# EAGLE library part SI3201 (library SilabsProSLIC)
Si3201 Linefeed Interface IC Silicon Labs 3201 Linefeed Interface IC
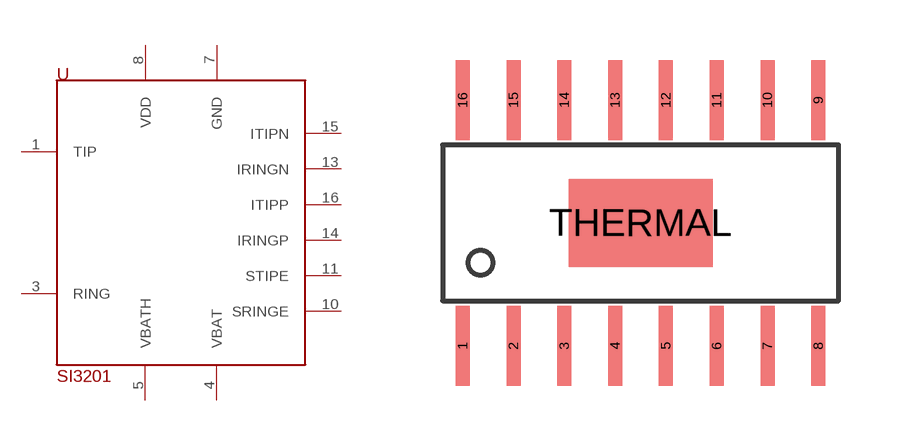
[diagram p1: symbol with the pads of ESOIC-16T; footprint ESOIC-16T]

Designator prefix -

## SI3201  [ESOIC-16T]
1  TIP
3  RING
4  VBAT  pwr
5  VBATH  pwr
7  GND  pwr
8  VDD  pwr
10  SRINGE  out
11  STIPE  out
13  IRINGN  in
14  IRINGP  in
15  ITIPN  in
16  ITIPP  in

## Footprint ESOIC-16T (pad centres in mm)
ESOIC-16 with thermal pad 16-pin Enhanced Small-Outline IC with thermal pad
smd 0.35 x 2: 1 -4.445,-3.075; 2 -3.175,-3.075; 3 -1.905,-3.075; 4 -0.635,-3.075; 5 0.635,-3.075; 6 1.905,-3.075; 7 3.175,-3.075; 8 4.445,-3.075; 9 4.445,3.075; 10 3.175,3.075; 11 1.905,3.075; 12 0.635,3.075; 13 -0.635,3.075; 14 -1.905,3.075; 15 -3.175,3.075; 16 -4.445,3.075
smd 3.6 x 2.2: THERMAL 0,0